# Altium footprint library 1210 Kemet Capacitor Footprints.PcbLib: 13 footprints
Each footprint in its own frame and in the unit in brackets; x right, y up, seen from the top. Pads: shape width x height; smd on the part's side, far side on the other; paste and mask are expansions set on the pad; w line width, h text height; cw(c..) or ccw(c..) is an arc to the next point about the centre after c.
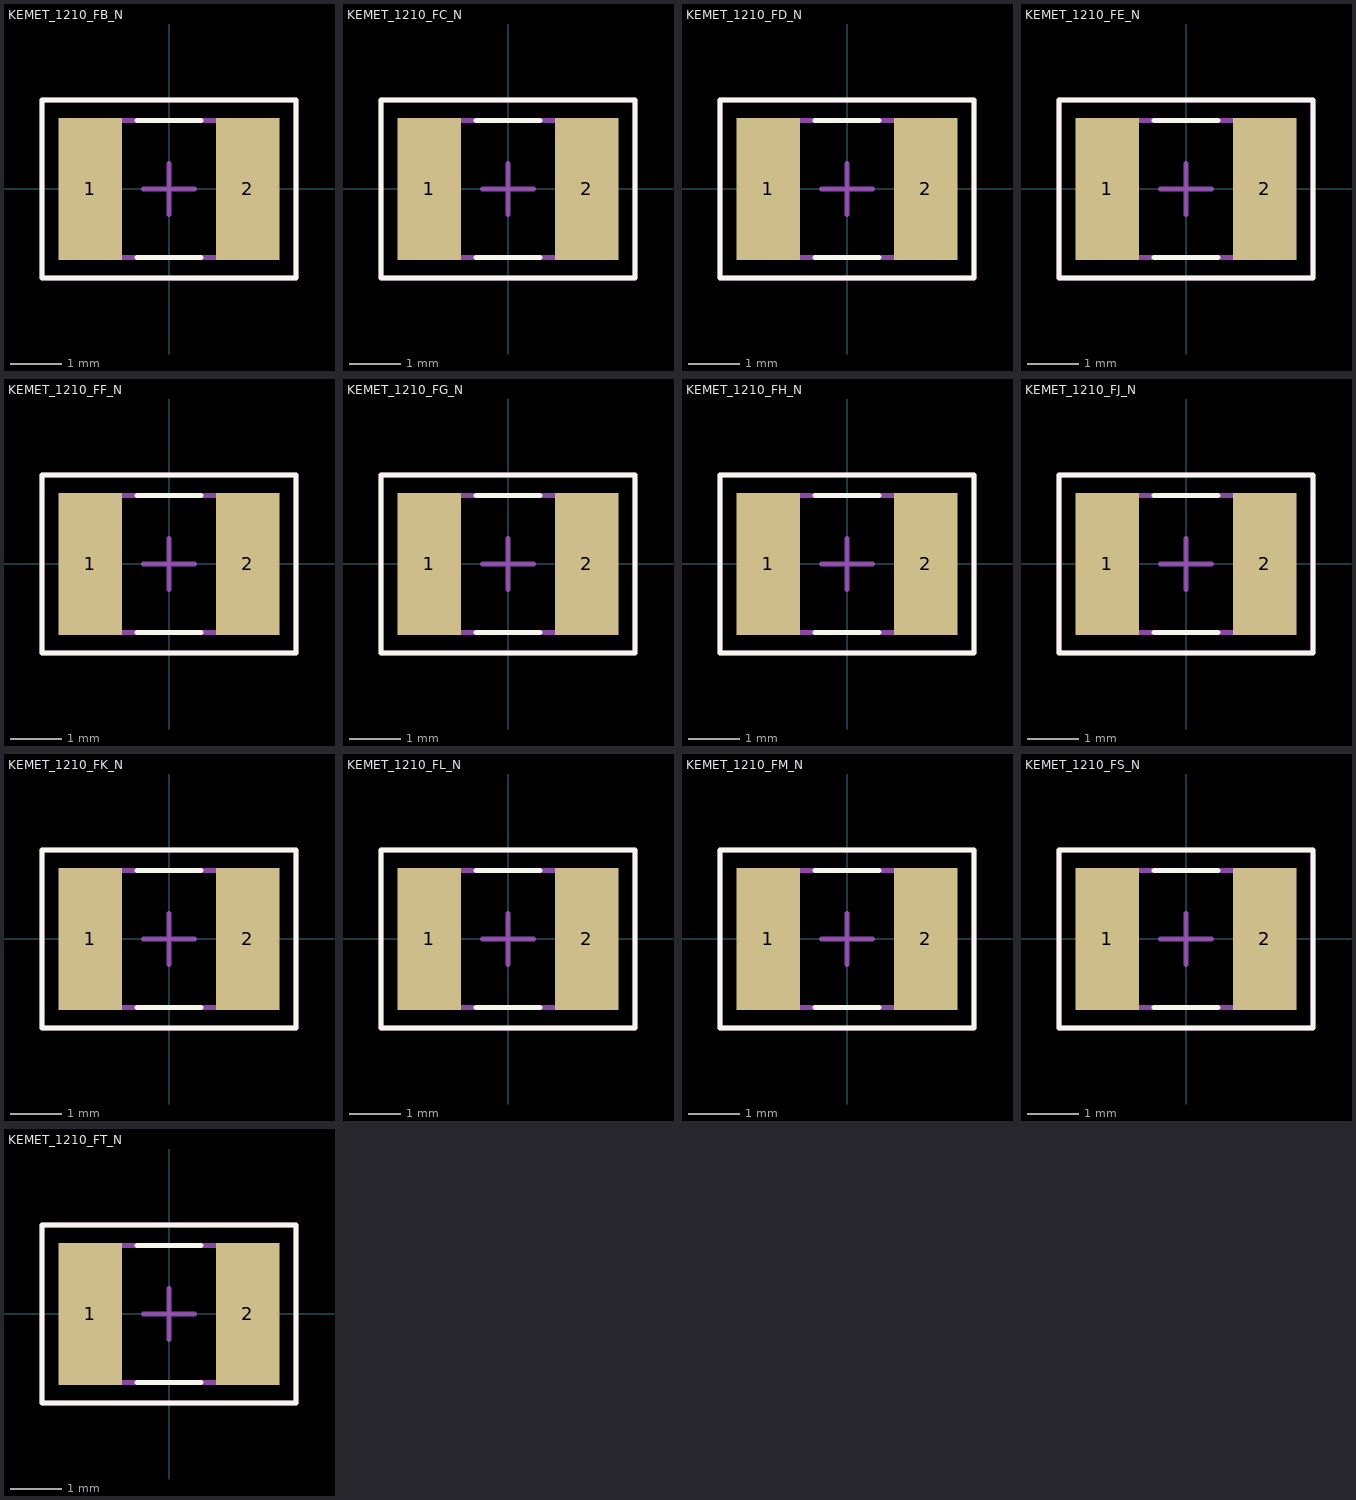
[diagram p0: the footprints below, top view; thin cyan lines are the x and y axes]

## KEMET_1210_FB_N [mm] "Chip Capacitor, 2-Leads, Body 3.2x2.5mm, IPC Medium Density"
height 0.88
pads (2):
  rect 1.25x2.8 smd: 1(-1.55,0) 2(1.55,0)
Top Overlay:
  lines w0.1: -0.625,-1.35 0.625,-1.35 ; -0.625,1.35 0.625,1.35 ; -2.5,-1.75 -2.5,1.75 2.5,1.75 2.5,-1.75 -2.5,-1.75
Mechanical 13:
  lines w0.1: -1.7,-1.35 1.7,-1.35 1.7,1.35 -1.7,1.35 -1.7,-1.35
Mechanical 15:
  lines w0.1: -0.5,0 0.5,0 ; 0,-0.5 0,0.5 ; -2.5,-1.75 2.5,-1.75 2.5,1.75 -2.5,1.75 -2.5,-1.75
3D body: height 0.88, standoff 0, extent -1.7,-1.35 1.7,1.35

## KEMET_1210_FC_N [mm] "Chip Capacitor, 2-Leads, Body 3.2x2.5mm, IPC Medium Density"
height 1
pads (2):
  rect 1.25x2.8 smd: 1(-1.55,0) 2(1.55,0)
Top Overlay:
  lines w0.1: -0.625,-1.35 0.625,-1.35 ; -0.625,1.35 0.625,1.35 ; -2.5,-1.75 -2.5,1.75 2.5,1.75 2.5,-1.75 -2.5,-1.75
Mechanical 13:
  lines w0.1: -1.7,-1.35 1.7,-1.35 1.7,1.35 -1.7,1.35 -1.7,-1.35
Mechanical 15:
  lines w0.1: -0.5,0 0.5,0 ; 0,-0.5 0,0.5 ; -2.5,-1.75 2.5,-1.75 2.5,1.75 -2.5,1.75 -2.5,-1.75
3D body: height 1, standoff 0, extent -1.7,-1.35 1.7,1.35

## KEMET_1210_FD_N [mm] "Chip Capacitor, 2-Leads, Body 3.2x2.5mm, IPC Medium Density"
height 1.05
pads (2):
  rect 1.25x2.8 smd: 1(-1.55,0) 2(1.55,0)
Top Overlay:
  lines w0.1: -0.625,-1.35 0.625,-1.35 ; -0.625,1.35 0.625,1.35 ; -2.5,-1.75 2.5,-1.75 2.5,1.75 -2.5,1.75 -2.5,-1.75
Mechanical 13:
  lines w0.1: -1.7,-1.35 -1.7,1.35 1.7,1.35 1.7,-1.35 -1.7,-1.35
Mechanical 15:
  lines w0.1: -0.5,0 0.5,0 ; 0,-0.5 0,0.5 ; -2.5,-1.75 -2.5,1.75 2.5,1.75 2.5,-1.75 -2.5,-1.75
3D body: height 1.05, standoff 0, extent -1.7,-1.35 1.7,1.35

## KEMET_1210_FE_N [mm] "Chip Capacitor, 2-Leads, Body 3.2x2.5mm, IPC Medium Density"
height 1.1
pads (2):
  rect 1.25x2.8 smd: 1(-1.55,0) 2(1.55,0)
Top Overlay:
  lines w0.1: -0.625,-1.35 0.625,-1.35 ; -0.625,1.35 0.625,1.35 ; -2.5,-1.75 2.5,-1.75 2.5,1.75 -2.5,1.75 -2.5,-1.75
Mechanical 13:
  lines w0.1: -1.7,-1.35 -1.7,1.35 1.7,1.35 1.7,-1.35 -1.7,-1.35
Mechanical 15:
  lines w0.1: -0.5,0 0.5,0 ; 0,-0.5 0,0.5 ; -2.5,-1.75 -2.5,1.75 2.5,1.75 2.5,-1.75 -2.5,-1.75
3D body: height 1.1, standoff 0, extent -1.7,-1.35 1.7,1.35

## KEMET_1210_FF_N [mm] "Chip Capacitor, 2-Leads, Body 3.2x2.5mm, IPC Medium Density"
height 1.2
pads (2):
  rect 1.25x2.8 smd: 1(-1.55,0) 2(1.55,0)
Top Overlay:
  lines w0.1: -0.625,-1.35 0.625,-1.35 ; -0.625,1.35 0.625,1.35 ; -2.5,-1.75 -2.5,1.75 2.5,1.75 2.5,-1.75 -2.5,-1.75
Mechanical 13:
  lines w0.1: -1.7,-1.35 1.7,-1.35 1.7,1.35 -1.7,1.35 -1.7,-1.35
Mechanical 15:
  lines w0.1: -0.5,0 0.5,0 ; 0,-0.5 0,0.5 ; -2.5,-1.75 2.5,-1.75 2.5,1.75 -2.5,1.75 -2.5,-1.75
3D body: height 1.2, standoff 0, extent -1.7,-1.35 1.7,1.35

## KEMET_1210_FG_N [mm] "Chip Capacitor, 2-Leads, Body 3.2x2.5mm, IPC Medium Density"
height 1.4
pads (2):
  rect 1.25x2.8 smd: 1(-1.55,0) 2(1.55,0)
Top Overlay:
  lines w0.1: -0.625,-1.35 0.625,-1.35 ; -0.625,1.35 0.625,1.35 ; -2.5,-1.75 -2.5,1.75 2.5,1.75 2.5,-1.75 -2.5,-1.75
Mechanical 13:
  lines w0.1: -1.7,-1.35 1.7,-1.35 1.7,1.35 -1.7,1.35 -1.7,-1.35
Mechanical 15:
  lines w0.1: -0.5,0 0.5,0 ; 0,-0.5 0,0.5 ; -2.5,-1.75 2.5,-1.75 2.5,1.75 -2.5,1.75 -2.5,-1.75
3D body: height 1.4, standoff 0, extent -1.7,-1.35 1.7,1.35

## KEMET_1210_FH_N [mm] "Chip Capacitor, 2-Leads, Body 3.2x2.5mm, IPC Medium Density"
height 1.7
pads (2):
  rect 1.25x2.8 smd: 1(-1.55,0) 2(1.55,0)
Top Overlay:
  lines w0.1: -0.625,-1.35 0.625,-1.35 ; -0.625,1.35 0.625,1.35 ; -2.5,-1.75 -2.5,1.75 2.5,1.75 2.5,-1.75 -2.5,-1.75
Mechanical 13:
  lines w0.1: -1.7,-1.35 1.7,-1.35 1.7,1.35 -1.7,1.35 -1.7,-1.35
Mechanical 15:
  lines w0.1: -0.5,0 0.5,0 ; 0,-0.5 0,0.5 ; -2.5,-1.75 2.5,-1.75 2.5,1.75 -2.5,1.75 -2.5,-1.75
3D body: height 1.7, standoff 0, extent -1.7,-1.35 1.7,1.35

## KEMET_1210_FJ_N [mm] "Chip Capacitor, 2-Leads, Body 3.2x2.5mm, IPC Medium Density"
height 2.05
pads (2):
  rect 1.25x2.8 smd: 1(-1.55,0) 2(1.55,0)
Top Overlay:
  lines w0.1: -0.625,-1.35 0.625,-1.35 ; -0.625,1.35 0.625,1.35 ; -2.5,-1.75 2.5,-1.75 2.5,1.75 -2.5,1.75 -2.5,-1.75
Mechanical 13:
  lines w0.1: -1.7,-1.35 -1.7,1.35 1.7,1.35 1.7,-1.35 -1.7,-1.35
Mechanical 15:
  lines w0.1: -0.5,0 0.5,0 ; 0,-0.5 0,0.5 ; -2.5,-1.75 -2.5,1.75 2.5,1.75 2.5,-1.75 -2.5,-1.75
3D body: height 2.05, standoff 0, extent -1.7,-1.35 1.7,1.35

## KEMET_1210_FK_N [mm] "Chip Capacitor, 2-Leads, Body 3.2x2.5mm, IPC Medium Density"
height 2.3
pads (2):
  rect 1.25x2.8 smd: 1(-1.55,0) 2(1.55,0)
Top Overlay:
  lines w0.1: -0.625,-1.35 0.625,-1.35 ; -0.625,1.35 0.625,1.35 ; -2.5,-1.75 2.5,-1.75 2.5,1.75 -2.5,1.75 -2.5,-1.75
Mechanical 13:
  lines w0.1: -1.7,-1.35 -1.7,1.35 1.7,1.35 1.7,-1.35 -1.7,-1.35
Mechanical 15:
  lines w0.1: -0.5,0 0.5,0 ; 0,-0.5 0,0.5 ; -2.5,-1.75 -2.5,1.75 2.5,1.75 2.5,-1.75 -2.5,-1.75
3D body: height 2.3, standoff 0, extent -1.7,-1.35 1.7,1.35

## KEMET_1210_FL_N [mm] "Chip Capacitor, 2-Leads, Body 3.2x2.5mm, IPC Medium Density"
height 1.55
pads (2):
  rect 1.25x2.8 smd: 1(-1.55,0) 2(1.55,0)
Top Overlay:
  lines w0.1: -0.625,-1.35 0.625,-1.35 ; -0.625,1.35 0.625,1.35 ; -2.5,-1.75 2.5,-1.75 2.5,1.75 -2.5,1.75 -2.5,-1.75
Mechanical 13:
  lines w0.1: -1.7,-1.35 -1.7,1.35 1.7,1.35 1.7,-1.35 -1.7,-1.35
Mechanical 15:
  lines w0.1: -0.5,0 0.5,0 ; 0,-0.5 0,0.5 ; -2.5,-1.75 -2.5,1.75 2.5,1.75 2.5,-1.75 -2.5,-1.75
3D body: height 1.55, standoff 0, extent -1.7,-1.35 1.7,1.35

## KEMET_1210_FM_N [mm] "Chip Capacitor, 2-Leads, Body 3.2x2.5mm, IPC Medium Density"
height 1.9
pads (2):
  rect 1.25x2.8 smd: 1(-1.55,0) 2(1.55,0)
Top Overlay:
  lines w0.1: -0.625,-1.35 0.625,-1.35 ; -0.625,1.35 0.625,1.35 ; -2.5,-1.75 -2.5,1.75 2.5,1.75 2.5,-1.75 -2.5,-1.75
Mechanical 13:
  lines w0.1: -1.7,-1.35 1.7,-1.35 1.7,1.35 -1.7,1.35 -1.7,-1.35
Mechanical 15:
  lines w0.1: -0.5,0 0.5,0 ; 0,-0.5 0,0.5 ; -2.5,-1.75 2.5,-1.75 2.5,1.75 -2.5,1.75 -2.5,-1.75
3D body: height 1.9, standoff 0, extent -1.7,-1.35 1.7,1.35

## KEMET_1210_FS_N [mm] "Chip Capacitor, 2-Leads, Body 3.2x2.5mm, IPC Medium Density"
height 2.7
pads (2):
  rect 1.25x2.8 smd: 1(-1.55,0) 2(1.55,0)
Top Overlay:
  lines w0.1: -0.625,-1.35 0.625,-1.35 ; -0.625,1.35 0.625,1.35 ; -2.5,-1.75 -2.5,1.75 2.5,1.75 2.5,-1.75 -2.5,-1.75
Mechanical 13:
  lines w0.1: -1.7,-1.35 1.7,-1.35 1.7,1.35 -1.7,1.35 -1.7,-1.35
Mechanical 15:
  lines w0.1: -0.5,0 0.5,0 ; 0,-0.5 0,0.5 ; -2.5,-1.75 2.5,-1.75 2.5,1.75 -2.5,1.75 -2.5,-1.75
3D body: height 2.7, standoff 0, extent -1.7,-1.35 1.7,1.35

## KEMET_1210_FT_N [mm] "Chip Capacitor, 2-Leads, Body 3.2x2.5mm, IPC Medium Density"
height 2.1
pads (2):
  rect 1.25x2.8 smd: 1(-1.55,0) 2(1.55,0)
Top Overlay:
  lines w0.1: -0.625,-1.35 0.625,-1.35 ; -0.625,1.35 0.625,1.35 ; -2.5,-1.75 -2.5,1.75 2.5,1.75 2.5,-1.75 -2.5,-1.75
Mechanical 13:
  lines w0.1: -1.7,-1.35 1.7,-1.35 1.7,1.35 -1.7,1.35 -1.7,-1.35
Mechanical 15:
  lines w0.1: -0.5,0 0.5,0 ; 0,-0.5 0,0.5 ; -2.5,-1.75 2.5,-1.75 2.5,1.75 -2.5,1.75 -2.5,-1.75
3D body: height 2.1, standoff 0, extent -1.7,-1.35 1.7,1.35